# EAGLE library part 431181015816 (library Eagle_Wuerth_Elektronik_Switch)
WS-TSS-5x5 mm SMD Tact Switch with ground terminal, 4 pins
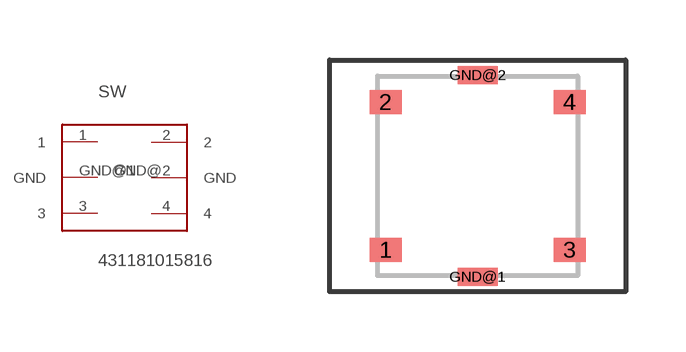
[diagram p135: symbol with the pads of 431181015816; footprint 431181015816]

Designator prefix SW

## 431181015816  [431181015816]
1  1
2  2
3  3
4  4
GND@1  GND
GND@2  GND

## Footprint 431181015816 (pad centres in mm)
WS-TSS-5x5 mm SMD Tact Switch with ground terminal, 4 pins
smd 0.8 x 0.6: 1 -2.3,-1.85; 2 -2.3,1.85; 3 2.3,-1.85; 4 2.3,1.85
smd 1 x 0.45: GND@1 0,-2.525; GND@2 0,2.525